# EAGLE library part 61303625721 (library Board-to-Board (rev18a))
WR-PHD 2.54mm Dual Socket Header Bottom Entry, 36 Pins =>Code : Con_BTB_SHD_2.54_2_61303625721 <http://katalog.we-online.de/media/images/eican/Con_BTB_SHD_2.54_2_6130xx25721_pf2.jpg> Details see: http://katalog.we-online.de/en/em/613_0xx_257_21 Created 2014-05-30, Karrer Zheng 2014 (C) Würth Elektronik
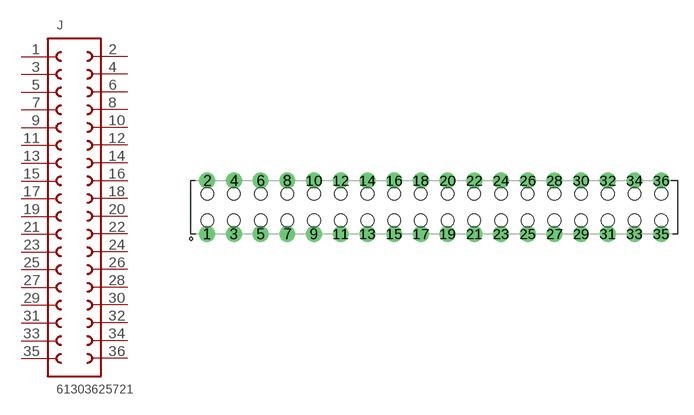
[diagram p163: symbol with the pads of 61303625721; footprint 61303625721]

Designator prefix J

## 61303625721  [61303625721]
1  1  pas
2  36  pas
3  2  pas
4  35  pas
5  3  pas
6  34  pas
7  4  pas
8  33  pas
9  5  pas
10  32  pas
11  6  pas
12  31  pas
13  7  pas
14  30  pas
15  8  pas
16  29  pas
17  9  pas
18  28  pas
19  10  pas
20  27  pas
21  11  pas
22  26  pas
23  12  pas
24  25  pas
25  13  pas
26  24  pas
27  14  pas
28  23  pas
29  15  pas
30  22  pas
31  16  pas
32  21  pas
33  17  pas
34  20  pas
35  18  pas
36  19  pas

## Footprint 61303625721 (pad centres in mm)
WR-PHD 2.54mm Dual Socket Header Bottom Entry, 36 Pins
drill 1 pad 1.4: 1 -21.59,-2.54; 2 -21.59,2.54; 3 -19.05,-2.54; 4 -19.05,2.54; 5 -16.51,-2.54; 6 -16.51,2.54; 7 -13.97,-2.54; 8 -13.97,2.54; 9 -11.43,-2.54; 10 -11.43,2.54; 11 -8.89,-2.54; 12 -8.89,2.54; 13 -6.35,-2.54; 14 -6.35,2.54; 15 -3.81,-2.54; 16 -3.81,2.54; 17 -1.27,-2.54; 18 -1.27,2.54; 19 1.27,-2.54; 20 1.27,2.54; 21 3.81,-2.54; 22 3.81,2.54; 23 6.35,-2.54; 24 6.35,2.54; 25 8.89,-2.54; 26 8.89,2.54; 27 11.43,-2.54; 28 11.43,2.54; 29 13.97,-2.54; 30 13.97,2.54; 31 16.51,-2.54; 32 16.51,2.54; 33 19.05,-2.54; 34 19.05,2.54; 35 21.59,-2.54; 36 21.59,2.54
hole 1.2 at -21.59,1.27
hole 1.2 at -19.05,1.27
hole 1.2 at -19.05,-1.27
hole 1.2 at -21.59,-1.27
hole 1.2 at -16.51,-1.27
hole 1.2 at -16.51,1.27
hole 1.2 at -13.97,1.27
hole 1.2 at -13.97,-1.27
hole 1.2 at -11.43,1.27
hole 1.2 at -11.43,-1.27
hole 1.2 at -8.89,-1.27
hole 1.2 at -8.89,1.27
hole 1.2 at -6.35,1.27
hole 1.2 at -6.35,-1.27
hole 1.2 at -3.81,-1.27
hole 1.2 at -3.81,1.27
hole 1.2 at -1.27,-1.27
hole 1.2 at -1.27,1.27
hole 1.2 at 1.27,1.27
hole 1.2 at 1.27,-1.27
hole 1.2 at 3.81,-1.27
hole 1.2 at 3.81,1.27
hole 1.2 at 6.35,-1.27
hole 1.2 at 6.35,1.27
hole 1.2 at 8.89,-1.27
hole 1.2 at 8.89,1.27
hole 1.2 at 11.43,-1.27
hole 1.2 at 11.43,1.27
hole 1.2 at 13.97,1.27
hole 1.2 at 13.97,-1.27
hole 1.2 at 16.51,1.27
hole 1.2 at 16.51,-1.27
hole 1.2 at 19.05,-1.27
hole 1.2 at 19.05,1.27
hole 1.2 at 21.59,1.27
hole 1.2 at 21.59,-1.27